# EAGLE library part PINS_ARDUINO_DIGITAL2 (library arduino)
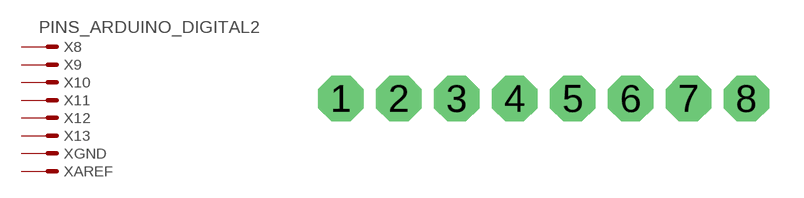
[diagram p4: symbol with the pads of 8PIN; footprint 8PIN]

Designator prefix X; gates 8=MV 9=M 10=M 11=M 12=M 13=M GND=M AREF=M

## PINS_ARDUINO_DIGITAL2  [8PIN]
1  8:S  pas
2  9:S  pas
3  10:S  pas
4  11:S  pas
5  12:S  pas
6  13:S  pas
7  GND:S  pas
8  AREF:S  pas

## Footprint 8PIN (pad centres in mm)
CONNECTOR series 057 contact pc board low profile headers straight
drill 1 pad 2 octagon: 1 -8.89,-1.27; 2 -6.35,-1.27; 3 -3.81,-1.27; 4 -1.27,-1.27; 5 1.27,-1.27; 6 3.81,-1.27; 7 6.35,-1.27; 8 8.89,-1.27